# EAGLE library part STUSB4710AQTR (library STUSB4710)
STUSB4710AQTR Autonomous USB PD controller with integrated discharge path
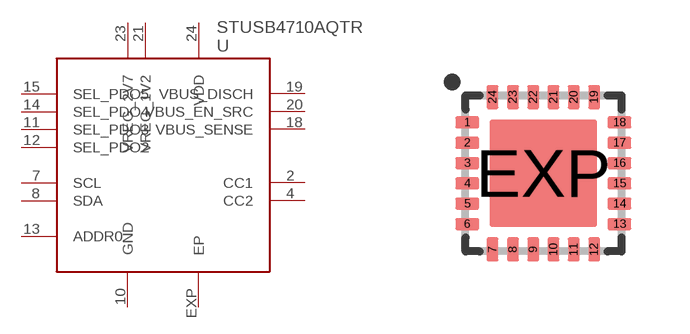
[diagram p0: symbol with the pads of QFN24EP; footprint QFN24EP]

Designator prefix -

## STUSB4710AQTR  [QFN24EP]
2  CC1
4  CC2
7  SCL
8  SDA
10  GND
11  SEL_PDO3
12  SEL_PDO2
13  ADDR0
14  SEL_PDO4
15  SEL_PDO5
18  VBUS_SENSE
19  VBUS_DISCH
20  VBUS_EN_SRC
21  VREG_1V2
23  VREG_2V7
24  VDD
EXP  EP

## Footprint QFN24EP (pad centres in mm)
smd 0.6 x 0.3: 1 -1.905,1.27; 2 -1.905,0.762; 3 -1.905,0.254; 4 -1.905,-0.254; 5 -1.905,-0.762; 6 -1.905,-1.27; 13 1.905,-1.27; 14 1.905,-0.762; 15 1.905,-0.254; 16 1.905,0.254; 17 1.905,0.762; 18 1.905,1.27
smd 0.3 x 0.6: 7 -1.27,-1.905; 8 -0.762,-1.905; 9 -0.254,-1.905; 10 0.254,-1.905; 11 0.762,-1.905; 12 1.27,-1.905; 19 1.27,1.905; 20 0.762,1.905; 21 0.254,1.905; 22 -0.254,1.905; 23 -0.762,1.905; 24 -1.27,1.905
smd 2.692 x 2.692: EXP 0,0